# EAGLE library part WE-TVS-HS_SOT23-6L_824015043 (library Eagle_WE-TVS (rev26a))
WE-TVS TVS Diode – High Speed Series Characteristics Low clamping voltage Sturdy design Very low capacitance Flow Thru Design for a simple layout Rail to Rail protection Epoxy flame resistant UL94-V0 RoHS, REACH and free of halogens Applications Very fast data lines USB 2.0 Ethernet PoE VGA Sim Cards Keypads HS = High Speed <https://www.we-online.com/components/media/o14883v209%20Family_WE-TVS_HIGHSPEED.jpg> Details see: www.we-online.com/en/components/products/WE-TVS-HS <www.we-online.com/catalog/WE-CAIR/?utm_source=eagle_model&utm_medium=description_link&utm_campaign=eisos_eagle> Updated by Ella Wu 2019-07-12 2019 (C) Wurth Elektronik
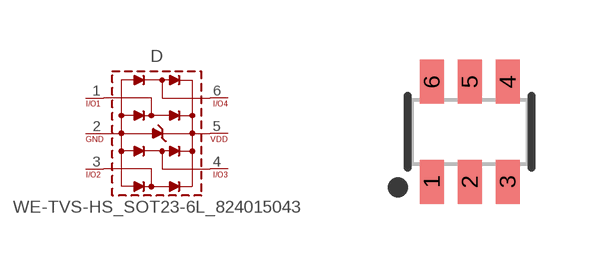
[diagram p10: symbol with the pads of WE-TVS_SOT23-6L; footprint WE-TVS_SOT23-6L]

Designator prefix D

## WE-TVS-HS_SOT23-6L_824015043 (CCH-TYP: 2pF; CHANNELS: 4+1; DATASHEET-URL: https://www.we-online.com/redexpert/spec/824015043?ae; HEIGHT: 1.16mm; IPEAK: 30A; LENGTH: 2.9mm; MOUNT: SMT; PART-NUMBER: 824015043; POLARITY: Unidirectional; SIZE: SOT23-6L; VALUE: 824015043; VBR-MIN: 4.5V; VCH-CLAMP-ESD: 7.5V; VCH-MAX: 3.3V; VESD-CONTACT: 30kV; WIDTH: 2.8mm)  [WE-TVS_SOT23-6L]
1  1  pas
2  GND  pas
3  3  pas
4  4  pas
5  VDD  pas
6  6  pas

## Footprint WE-TVS_SOT23-6L (pad centres in mm)
WE-TVS TVS Diode Size: SOT23-6L L X W X H = 2.8mm X 2.9mm X 1.45mm
smd 0.6 x 1.1: 1 -0.95,-1.25; 2 0,-1.25; 3 0.95,-1.25; 4 0.95,1.25; 5 0,1.25; 6 -0.95,1.25